# Altium footprint library DIP_LIB.PcbLib: 26 footprints (part 1 of 2)
Each footprint in its own frame and in the unit in brackets; x right, y up, seen from the top. Pads: shape width x height; smd on the part's side, far side on the other; paste and mask are expansions set on the pad; w line width, h text height; cw(c..) or ccw(c..) is an arc to the next point about the centre after c.
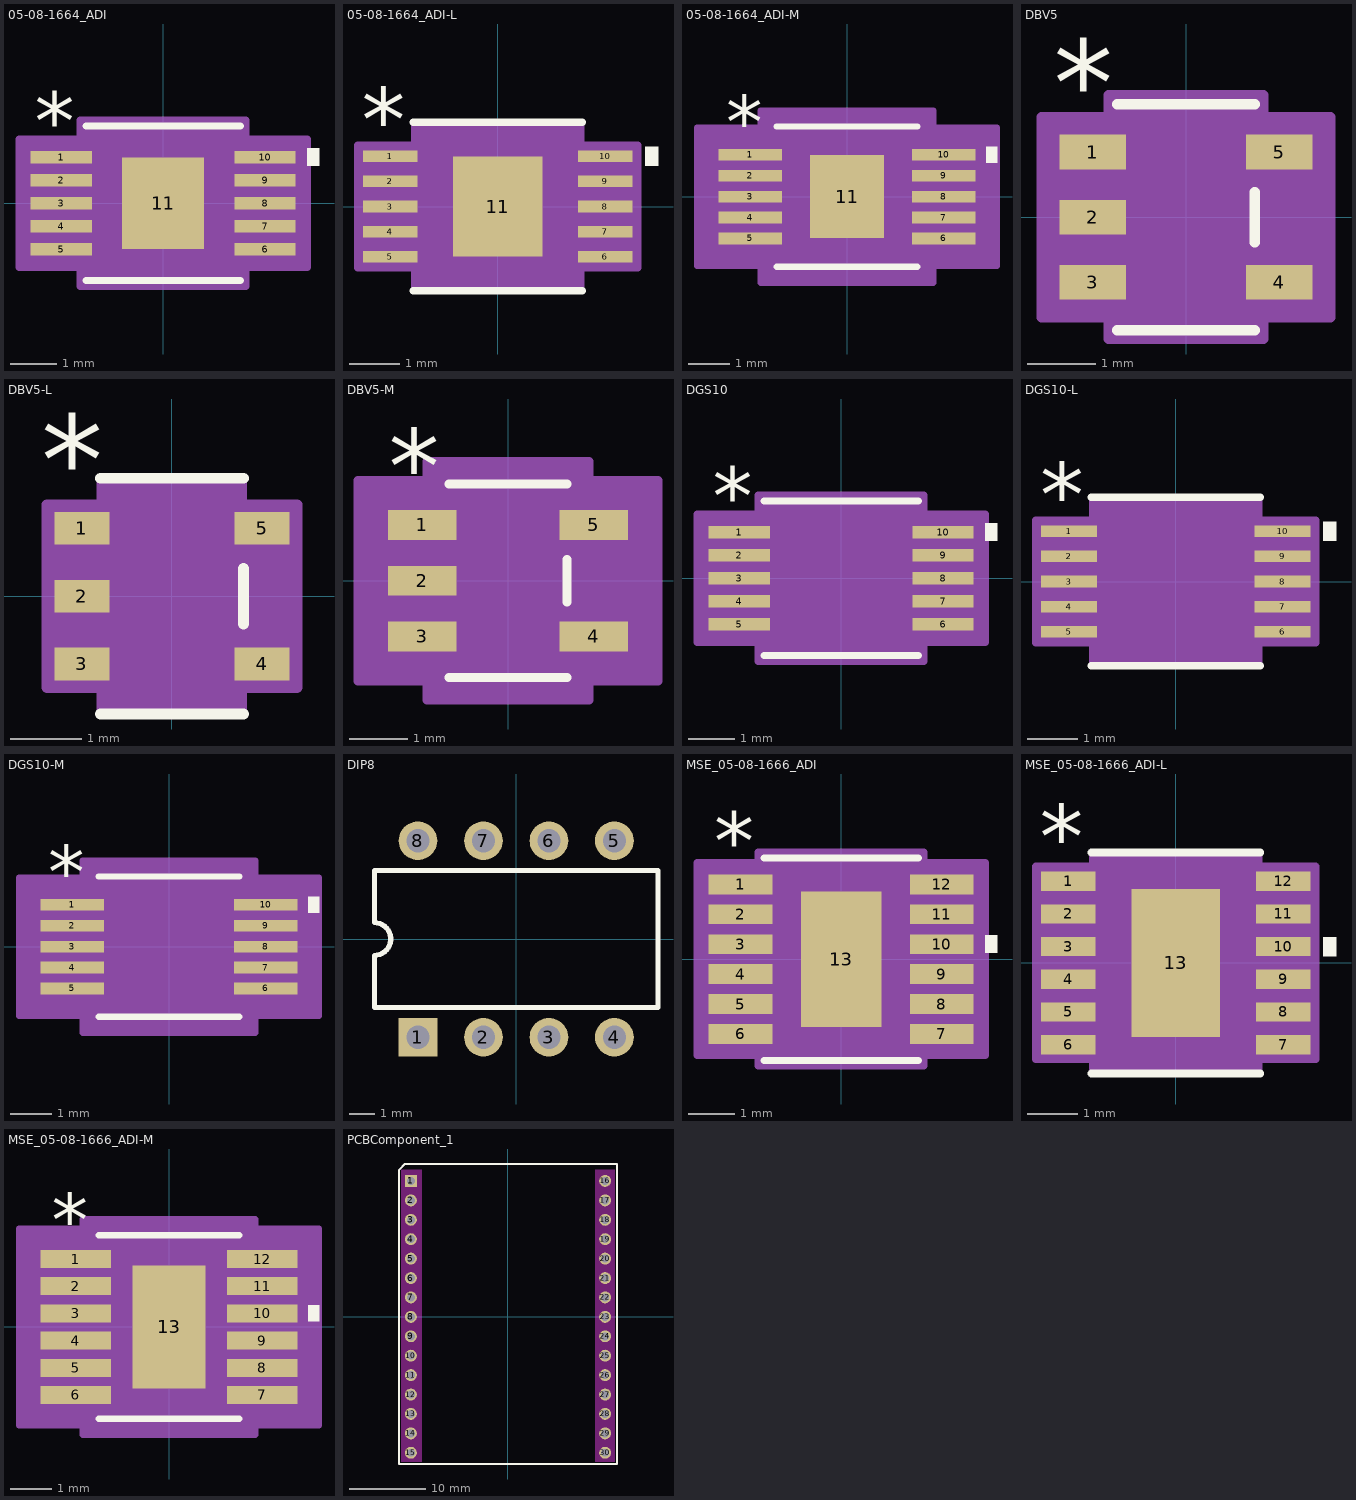
[diagram p0: the footprints below, top view; thin cyan lines are the x and y axes]

## 05-08-1664_ADI [mil]
pads (11):
  rect 52.28x11 smd paste+0 mask+0: 1(-87.14,39.37) 2(-87.14,19.68) 3(-87.14,0) 4(-87.14,-19.68) 5(-87.14,-39.37) 6(87.14,-39.37) 7(87.14,-19.68) 8(87.14,0) 9(87.14,19.68) 10(87.14,39.37)
  rect 70x78 smd paste+0 mask+0: 11(0,0)
Top Overlay:
  region: 123.28,46.87 133.28,46.87 133.28,31.87 123.28,31.87
  lines w6: -66,-66 66,-66 ; -66,66 66,66
  text ".Designator" at -137.5,-25 h50
  text "*" at -109.64,45.37 h50
Mechanical 13:
  lines w1: -12,61 ccw(c0,61) 12,61 ; -99.5,-44.87 -99.5,-33.87 -61,-33.87 -61,-44.87 -99.5,-44.87 ; -99.5,-25.18 -99.5,-14.19 -61,-14.19 -61,-25.18 -99.5,-25.18 ; -99.5,-5.5 -99.5,5.5 -61,5.5 -61,-5.5 -99.5,-5.5 ; -99.5,14.19 -99.5,25.18 -61,25.18 -61,14.19 -99.5,14.19 ; -99.5,33.87 -99.5,44.87 -61,44.87 -61,33.87 -99.5,33.87 ; -61,-61 61,-61 61,61 -61,61 -61,-61 ; 61,-44.87 61,-33.87 99.5,-33.87 99.5,-44.87 61,-44.87 ; 61,-25.18 61,-14.19 99.5,-14.19 99.5,-25.18 61,-25.18 ; 61,-5.5 61,5.5 99.5,5.5 99.5,-5.5 61,-5.5 ; 61,14.19 61,25.18 99.5,25.18 99.5,14.19 61,14.19 ; 61,33.87 61,44.87 99.5,44.87 99.5,33.87 61,33.87
  text "*" at -58.5,8 h50
  text ".Designator" at -137.5,-25 h50
Mechanical 15:
  region: -71,-54.87 -123.28,-54.87 -123.28,54.87 -71,54.87 -71,71 71,71 71,54.87 123.28,54.87 123.28,-54.87 71,-54.87 71,-71 -71,-71
  lines w6: -123.28,-54.87 -123.28,54.87 -71,54.87 -71,71 71,71 71,54.87 123.28,54.87 123.28,-54.87 71,-54.87 71,-71 -71,-71 -71,-54.87 -123.28,-54.87
3D body "05-08-1664_ADI.step": height 43.11, standoff 0, extent -99.49,-60.98 99.49,60.98

## 05-08-1664_ADI-L [mm]
pads (11):
  rect 1.086x0.229 smd paste+0 mask+0: 1(-2.134,1) 2(-2.134,0.5) 3(-2.134,0) 4(-2.134,-0.5) 5(-2.134,-1) 6(2.134,-1) 7(2.134,-0.5) 8(2.134,0) 9(2.134,0.5) 10(2.134,1)
  rect 1.778x1.981 smd paste+0 mask+0: 11(0,0)
Top Overlay:
  region: 2.931,1.191 3.185,1.191 3.185,0.81 2.931,0.81
  lines w0.152: -1.676,-1.676 1.676,-1.676 ; -1.676,1.676 1.676,1.676
  text ".Designator" at -3.492,-0.635 h1.27
  text "*" at -2.706,1.102 h1.27
Mechanical 13:
  lines w0.025: -0.305,1.549 ccw(c0,1.549) 0.305,1.549 ; -2.527,-1.14 -2.527,-0.86 -1.549,-0.86 -1.549,-1.14 -2.527,-1.14 ; -2.527,-0.64 -2.527,-0.36 -1.549,-0.36 -1.549,-0.64 -2.527,-0.64 ; -2.527,-0.14 -2.527,0.14 -1.549,0.14 -1.549,-0.14 -2.527,-0.14 ; -2.527,0.36 -2.527,0.64 -1.549,0.64 -1.549,0.36 -2.527,0.36 ; -2.527,0.86 -2.527,1.14 -1.549,1.14 -1.549,0.86 -2.527,0.86 ; -1.549,-1.549 1.549,-1.549 1.549,1.549 -1.549,1.549 -1.549,-1.549 ; 1.549,-1.14 1.549,-0.86 2.527,-0.86 2.527,-1.14 1.549,-1.14 ; 1.549,-0.64 1.549,-0.36 2.527,-0.36 2.527,-0.64 1.549,-0.64 ; 1.549,-0.14 1.549,0.14 2.527,0.14 2.527,-0.14 1.549,-0.14 ; 1.549,0.36 1.549,0.64 2.527,0.64 2.527,0.36 1.549,0.36 ; 1.549,0.86 1.549,1.14 2.527,1.14 2.527,0.86 1.549,0.86
  text "*" at -1.486,0.203 h1.27
  text ".Designator" at -3.492,-0.635 h1.27
Mechanical 15:
  region: -1.651,-1.216 -2.779,-1.216 -2.779,1.216 -1.651,1.216 -1.651,1.651 1.651,1.651 1.651,1.216 2.779,1.216 2.779,-1.216 1.651,-1.216 1.651,-1.651 -1.651,-1.651
  lines w0.152: -2.779,-1.216 -2.779,1.216 -1.651,1.216 -1.651,1.651 1.651,1.651 1.651,1.216 2.779,1.216 2.779,-1.216 1.651,-1.216 1.651,-1.651 -1.651,-1.651 -1.651,-1.216 -2.779,-1.216
3D body "05-08-1664_ADI.step": height 1.09, standoff 0, extent -2.527,-1.549 2.527,1.549

## 05-08-1664_ADI-M [mil]
pads (11):
  rect 60.15x11 smd paste+0 mask+0: 1(-91.08,39.37) 2(-91.08,19.68) 3(-91.08,0) 4(-91.08,-19.68) 5(-91.08,-39.37) 6(91.08,-39.37) 7(91.08,-19.68) 8(91.08,0) 9(91.08,19.68) 10(91.08,39.37)
  rect 70x78 smd paste+0 mask+0: 11(0,0)
Top Overlay:
  region: 131.15,46.87 141.15,46.87 141.15,31.87 131.15,31.87
  lines w6: -66,-66 66,-66 ; -66,66 66,66
  text "*" at -113.58,45.37 h50
  text ".Designator" at -137.5,-25 h50
Mechanical 13:
  lines w1: -12,61 ccw(c0,61) 12,61 ; -99.5,-44.87 -61,-44.87 -61,-33.87 -99.5,-33.87 -99.5,-44.87 ; -99.5,-25.18 -61,-25.18 -61,-14.19 -99.5,-14.19 -99.5,-25.18 ; -99.5,-5.5 -61,-5.5 -61,5.5 -99.5,5.5 -99.5,-5.5 ; -99.5,14.19 -61,14.19 -61,25.18 -99.5,25.18 -99.5,14.19 ; -99.5,33.87 -61,33.87 -61,44.87 -99.5,44.87 -99.5,33.87 ; -61,-61 -61,61 61,61 61,-61 -61,-61 ; 61,-44.87 99.5,-44.87 99.5,-33.87 61,-33.87 61,-44.87 ; 61,-25.18 99.5,-25.18 99.5,-14.19 61,-14.19 61,-25.18 ; 61,-5.5 99.5,-5.5 99.5,5.5 61,5.5 61,-5.5 ; 61,14.19 99.5,14.19 99.5,25.18 61,25.18 61,14.19 ; 61,33.87 99.5,33.87 99.5,44.87 61,44.87 61,33.87
  text ".Designator" at -137.5,-25 h50
  text "*" at -58.5,8 h50
Mechanical 15:
  region: -81,-64.87 -141.15,-64.87 -141.15,64.87 -81,64.87 -81,81 81,81 81,64.87 141.15,64.87 141.15,-64.87 81,-64.87 81,-81 -81,-81
  lines w6: -141.15,-64.87 -81,-64.87 -81,-81 81,-81 81,-64.87 141.15,-64.87 141.15,64.87 81,64.87 81,81 -81,81 -81,64.87 -141.15,64.87 -141.15,-64.87
3D body "05-08-1664_ADI.step": height 43.11, standoff 0, extent -99.49,-60.98 99.49,60.98

## DBV5 [mil]
pads (5):
  rect 38.28x20 smd paste+0 mask+0: 1(-53.64,37.4) 2(-53.64,0) 3(-53.64,-37.4) 4(53.64,-37.4) 5(53.64,37.4)
Top Overlay:
  lines w6: -39.5,-65 39.5,-65 ; -39.5,65 39.5,65 ; 39.5,-14.3 39.5,14.3
  text "*" at -76.14,52.4 h50
  text ".Designator" at -137.5,-25 h50
Mechanical 13:
  lines w1: -12,60 ccw(c0,60) 12,60 ; -59,-47.4 -59,-27.4 -34.5,-27.4 -34.5,-47.4 -59,-47.4 ; -59,-10 -59,10 -34.5,10 -34.5,-10 -59,-10 ; -59,27.4 -59,47.4 -34.5,47.4 -34.5,27.4 -59,27.4 ; -34.5,-60 34.5,-60 34.5,60 -34.5,60 -34.5,-60 ; 34.5,-47.4 34.5,-27.4 59,-27.4 59,-47.4 34.5,-47.4 ; 34.5,27.4 34.5,47.4 59,47.4 59,27.4 34.5,27.4
  text ".Designator" at -137.5,-25 h50
  text "*" at -37,14.4 h50
Mechanical 15:
  region: 44.5,-70 -44.5,-70 -44.5,-57.4 -82.78,-57.4 -82.78,57.4 -44.5,57.4 -44.5,70 44.5,70 44.5,57.4 82.78,57.4 82.78,-57.4 44.5,-57.4
  lines w6: -82.78,-57.4 -44.5,-57.4 -44.5,-70 44.5,-70 44.5,-57.4 82.78,-57.4 82.78,57.4 44.5,57.4 44.5,70 -44.5,70 -44.5,57.4 -82.78,57.4 -82.78,-57.4
3D body "DBV5.step": height 57.09, standoff 0, extent -59.02,-60 59.02,60

## DBV5-L [mm]
pads (5):
  rect 0.772x0.458 smd paste+0 mask+0: 1(-1.262,0.95) 2(-1.262,0) 3(-1.262,-0.95) 4(1.262,-0.95) 5(1.262,0.95)
Top Overlay:
  lines w0.152: -1.003,-1.651 1.003,-1.651 ; -1.003,1.651 1.003,1.651 ; 1.003,-0.388 1.003,0.388
  text "*" at -1.834,1.281 h1.27
  text ".Designator" at -3.492,-0.635 h1.27
Mechanical 13:
  lines w0.025: -0.305,1.524 ccw(c0,1.524) 0.305,1.524 ; -1.499,-1.204 -1.499,-0.696 -0.876,-0.696 -0.876,-1.204 -1.499,-1.204 ; -1.499,-0.254 -1.499,0.254 -0.876,0.254 -0.876,-0.254 -1.499,-0.254 ; -1.499,0.696 -1.499,1.204 -0.876,1.204 -0.876,0.696 -1.499,0.696 ; -0.876,-1.524 0.876,-1.524 0.876,1.524 -0.876,1.524 -0.876,-1.524 ; 0.876,-1.204 0.876,-0.696 1.499,-0.696 1.499,-1.204 0.876,-1.204 ; 0.876,0.696 0.876,1.204 1.499,1.204 1.499,0.696 0.876,0.696
  text ".Designator" at -3.492,-0.635 h1.27
  text "*" at -0.94,0.316 h1.27
Mechanical 15:
  region: 0.978,-1.626 -0.978,-1.626 -0.978,-1.281 -1.75,-1.281 -1.75,1.281 -0.978,1.281 -0.978,1.626 0.978,1.626 0.978,1.281 1.75,1.281 1.75,-1.281 0.978,-1.281
  lines w0.152: -1.75,-1.281 -0.978,-1.281 -0.978,-1.626 0.978,-1.626 0.978,-1.281 1.75,-1.281 1.75,1.281 0.978,1.281 0.978,1.626 -0.978,1.626 -0.978,1.281 -1.75,1.281 -1.75,-1.281
3D body "DBV5.step": height 1.45, standoff 0, extent -1.499,-1.524 1.499,1.524

## DBV5-M [mil]
pads (5):
  rect 46.15x20 smd paste+0 mask+0: 1(-57.58,37.4) 2(-57.58,0) 3(-57.58,-37.4) 4(57.58,-37.4) 5(57.58,37.4)
Top Overlay:
  lines w6: -39.5,-65 39.5,-65 ; -39.5,65 39.5,65 ; 39.5,-14.3 39.5,14.3
  text "*" at -80.08,52.4 h50
  text ".Designator" at -137.5,-25 h50
Mechanical 13:
  lines w1: -12,60 ccw(c0,60) 12,60 ; -59,-47.4 -59,-27.4 -34.5,-27.4 -34.5,-47.4 -59,-47.4 ; -59,-10 -59,10 -34.5,10 -34.5,-10 -59,-10 ; -59,27.4 -59,47.4 -34.5,47.4 -34.5,27.4 -59,27.4 ; -34.5,-60 34.5,-60 34.5,60 -34.5,60 -34.5,-60 ; 34.5,-47.4 34.5,-27.4 59,-27.4 59,-47.4 34.5,-47.4 ; 34.5,27.4 34.5,47.4 59,47.4 59,27.4 34.5,27.4
  text ".Designator" at -137.5,-25 h50
  text "*" at -37,14.4 h50
Mechanical 15:
  region: 54.5,-80 -54.5,-80 -54.5,-67.4 -100.65,-67.4 -100.65,67.4 -54.5,67.4 -54.5,80 54.5,80 54.5,67.4 100.65,67.4 100.65,-67.4 54.5,-67.4
  lines w6: -100.65,-67.4 -54.5,-67.4 -54.5,-80 54.5,-80 54.5,-67.4 100.65,-67.4 100.65,67.4 54.5,67.4 54.5,80 -54.5,80 -54.5,67.4 -100.65,67.4 -100.65,-67.4
3D body "DBV5.step": height 57.09, standoff 0, extent -59.02,-60 59.02,60

## DGS10 [mil]
pads (10):
  rect 52.28x11 smd paste+0 mask+0: 1(-87.14,39.37) 2(-87.14,19.68) 3(-87.14,0) 4(-87.14,-19.68) 5(-87.14,-39.37) 6(87.14,-39.37) 7(87.14,-19.68) 8(87.14,0) 9(87.14,19.68) 10(87.14,39.37)
Top Overlay:
  region: 123.28,46.87 133.28,46.87 133.28,31.87 123.28,31.87
  lines w6: -66,-66 66,-66 ; -66,66 66,66
  text "*" at -109.64,45.37 h50
  text ".Designator" at -137.5,-25 h50
Mechanical 13:
  lines w1: -12,61 ccw(c0,61) 12,61 ; -99.5,-44.87 -61,-44.87 -61,-33.87 -99.5,-33.87 -99.5,-44.87 ; -99.5,-25.18 -61,-25.18 -61,-14.19 -99.5,-14.19 -99.5,-25.18 ; -99.5,-5.5 -61,-5.5 -61,5.5 -99.5,5.5 -99.5,-5.5 ; -99.5,14.19 -61,14.19 -61,25.18 -99.5,25.18 -99.5,14.19 ; -99.5,33.87 -61,33.87 -61,44.87 -99.5,44.87 -99.5,33.87 ; -61,-61 -61,61 61,61 61,-61 -61,-61 ; 61,-44.87 99.5,-44.87 99.5,-33.87 61,-33.87 61,-44.87 ; 61,-25.18 99.5,-25.18 99.5,-14.19 61,-14.19 61,-25.18 ; 61,-5.5 99.5,-5.5 99.5,5.5 61,5.5 61,-5.5 ; 61,14.19 99.5,14.19 99.5,25.18 61,25.18 61,14.19 ; 61,33.87 99.5,33.87 99.5,44.87 61,44.87 61,33.87
  text ".Designator" at -137.5,-25 h50
  text "*" at -58.5,8 h50
Mechanical 15:
  region: -71,-54.87 -123.28,-54.87 -123.28,54.87 -71,54.87 -71,71 71,71 71,54.87 123.28,54.87 123.28,-54.87 71,-54.87 71,-71 -71,-71
  lines w6: -123.28,-54.87 -71,-54.87 -71,-71 71,-71 71,-54.87 123.28,-54.87 123.28,54.87 71,54.87 71,71 -71,71 -71,54.87 -123.28,54.87 -123.28,-54.87
3D body "DGS10.step": height 43.11, standoff 0, extent -99.49,-60.98 99.49,60.98

## DGS10-L [mm]
pads (10):
  rect 1.111x0.229 smd paste+0 mask+0: 1(-2.122,1) 2(-2.122,0.5) 3(-2.122,0) 4(-2.122,-0.5) 5(-2.122,-1) 6(2.122,-1) 7(2.122,-0.5) 8(2.122,0) 9(2.122,0.5) 10(2.122,1)
Top Overlay:
  region: 2.931,1.191 3.185,1.191 3.185,0.81 2.931,0.81
  lines w0.152: -1.676,-1.676 1.676,-1.676 ; -1.676,1.676 1.676,1.676
  text "*" at -2.693,1.102 h1.27
  text ".Designator" at -3.492,-0.635 h1.27
Mechanical 13:
  lines w0.025: -0.305,1.549 ccw(c0,1.549) 0.305,1.549 ; -2.527,-1.14 -1.549,-1.14 -1.549,-0.86 -2.527,-0.86 -2.527,-1.14 ; -2.527,-0.64 -1.549,-0.64 -1.549,-0.36 -2.527,-0.36 -2.527,-0.64 ; -2.527,-0.14 -1.549,-0.14 -1.549,0.14 -2.527,0.14 -2.527,-0.14 ; -2.527,0.36 -1.549,0.36 -1.549,0.64 -2.527,0.64 -2.527,0.36 ; -2.527,0.86 -1.549,0.86 -1.549,1.14 -2.527,1.14 -2.527,0.86 ; -1.549,-1.549 -1.549,1.549 1.549,1.549 1.549,-1.549 -1.549,-1.549 ; 1.549,-1.14 2.527,-1.14 2.527,-0.86 1.549,-0.86 1.549,-1.14 ; 1.549,-0.64 2.527,-0.64 2.527,-0.36 1.549,-0.36 1.549,-0.64 ; 1.549,-0.14 2.527,-0.14 2.527,0.14 1.549,0.14 1.549,-0.14 ; 1.549,0.36 2.527,0.36 2.527,0.64 1.549,0.64 1.549,0.36 ; 1.549,0.86 2.527,0.86 2.527,1.14 1.549,1.14 1.549,0.86
  text ".Designator" at -3.492,-0.635 h1.27
  text "*" at -1.486,0.203 h1.27
Mechanical 15:
  region: -1.651,-1.216 -2.779,-1.216 -2.779,1.216 -1.651,1.216 -1.651,1.651 1.651,1.651 1.651,1.216 2.779,1.216 2.779,-1.216 1.651,-1.216 1.651,-1.651 -1.651,-1.651
  lines w0.152: -2.779,-1.216 -1.651,-1.216 -1.651,-1.651 1.651,-1.651 1.651,-1.216 2.779,-1.216 2.779,1.216 1.651,1.216 1.651,1.651 -1.651,1.651 -1.651,1.216 -2.779,1.216 -2.779,-1.216
3D body "DGS10.step": height 1.09, standoff 0, extent -2.527,-1.549 2.527,1.549

## DGS10-M [mil]
pads (10):
  rect 60.15x11 smd paste+0 mask+0: 1(-91.08,39.37) 2(-91.08,19.68) 3(-91.08,0) 4(-91.08,-19.68) 5(-91.08,-39.37) 6(91.08,-39.37) 7(91.08,-19.68) 8(91.08,0) 9(91.08,19.68) 10(91.08,39.37)
Top Overlay:
  region: 131.15,46.87 141.15,46.87 141.15,31.87 131.15,31.87
  lines w6: -66,-66 66,-66 ; -66,66 66,66
  text ".Designator" at -137.5,-25 h50
  text "*" at -113.58,45.37 h50
Mechanical 13:
  lines w1: -12,61 ccw(c0,61) 12,61 ; -99.5,-44.87 -99.5,-33.87 -61,-33.87 -61,-44.87 -99.5,-44.87 ; -99.5,-25.18 -99.5,-14.19 -61,-14.19 -61,-25.18 -99.5,-25.18 ; -99.5,-5.5 -99.5,5.5 -61,5.5 -61,-5.5 -99.5,-5.5 ; -99.5,14.19 -99.5,25.18 -61,25.18 -61,14.19 -99.5,14.19 ; -99.5,33.87 -99.5,44.87 -61,44.87 -61,33.87 -99.5,33.87 ; -61,-61 61,-61 61,61 -61,61 -61,-61 ; 61,-44.87 61,-33.87 99.5,-33.87 99.5,-44.87 61,-44.87 ; 61,-25.18 61,-14.19 99.5,-14.19 99.5,-25.18 61,-25.18 ; 61,-5.5 61,5.5 99.5,5.5 99.5,-5.5 61,-5.5 ; 61,14.19 61,25.18 99.5,25.18 99.5,14.19 61,14.19 ; 61,33.87 61,44.87 99.5,44.87 99.5,33.87 61,33.87
  text "*" at -58.5,8 h50
  text ".Designator" at -137.5,-25 h50
Mechanical 15:
  region: -81,-64.87 -141.15,-64.87 -141.15,64.87 -81,64.87 -81,81 81,81 81,64.87 141.15,64.87 141.15,-64.87 81,-64.87 81,-81 -81,-81
  lines w6: -141.15,-64.87 -141.15,64.87 -81,64.87 -81,81 81,81 81,64.87 141.15,64.87 141.15,-64.87 81,-64.87 81,-81 -81,-81 -81,-64.87 -141.15,-64.87
3D body "DGS10.step": height 43.11, standoff 0, extent -99.49,-60.98 99.49,60.98

## DIP8 [mm] "DIP; 8 Leads; Row Spacing 7.62 mm; Pitch 2.54 mm"
height 5.08
pads (8):
  rect 1.5x1.5 hole 0.9: 1(-3.81,-3.81)
  round 1.5 hole 0.9: 2(-1.27,-3.81) 3(1.27,-3.81) 4(3.81,-3.81) 5(3.81,3.81) 6(1.27,3.81) 7(-1.27,3.81) 8(-3.81,3.81)
Top Overlay:
  lines w0.2: -5.5,-2.65 -5.5,-0.635 ccw(c-5.5,0) -5.5,0.635 -5.5,2.65 5.5,2.65 5.5,-2.65 -5.5,-2.65

## MSE_05-08-1666_ADI [mil]
pads (13):
  rect 54.56x16.97 smd paste+0 mask+0: 1(-86,63.98) 2(-86,38.39) 3(-86,12.8) 4(-86,-12.8) 5(-86,-38.39) 6(-86,-63.98) 7(86,-63.98) 8(86,-38.39) 9(86,-12.8) 10(86,12.8) 11(86,38.39) 12(86,63.98)
  rect 69x116 smd paste-57.5 mask+0: 13(0,0)
Top Overlay:
  region: 123.28,20.3 133.28,20.3 133.28,5.3 123.28,5.3
  lines w6: -66,-86.5 66,-86.5 ; -66,86.5 66,86.5
  text ".Designator" at -137.5,-25 h50
  text "*" at -108.5,75.94 h50
Top Paste:
  region: 30.56,54.06 -30.56,54.06 -30.56,3.94 30.56,3.94
  region: 30.56,-3.94 -30.56,-3.94 -30.56,-54.06 30.56,-54.06
Mechanical 13:
  lines w1: -12,81.5 ccw(c0,81.5) 12,81.5 ; -99.5,-71.48 -99.5,-56.48 -61,-56.48 -61,-71.48 -99.5,-71.48 ; -99.5,-45.89 -99.5,-30.89 -61,-30.89 -61,-45.89 -99.5,-45.89 ; -99.5,-20.3 -99.5,-5.3 -61,-5.3 -61,-20.3 -99.5,-20.3 ; -99.5,5.3 -99.5,20.3 -61,20.3 -61,5.3 -99.5,5.3 ; -99.5,30.89 -99.5,45.89 -61,45.89 -61,30.89 -99.5,30.89 ; -99.5,56.48 -99.5,71.48 -61,71.48 -61,56.48 -99.5,56.48 ; -61,-81.5 61,-81.5 61,81.5 -61,81.5 -61,-81.5 ; 61,-71.48 61,-56.48 99.5,-56.48 99.5,-71.48 61,-71.48 ; 61,-45.89 61,-30.89 99.5,-30.89 99.5,-45.89 61,-45.89 ; 61,-20.3 61,-5.3 99.5,-5.3 99.5,-20.3 61,-20.3 ; 61,5.3 61,20.3 99.5,20.3 99.5,5.3 61,5.3 ; 61,30.89 61,45.89 99.5,45.89 99.5,30.89 61,30.89 ; 61,56.48 61,71.48 99.5,71.48 99.5,56.48 61,56.48
  text "*" at -58.5,28.5 h50
  text ".Designator" at -137.5,-25 h50
Mechanical 15:
  region: -71,-82.46 -123.28,-82.46 -123.28,82.46 -71,82.46 -71,91.5 71,91.5 71,82.46 123.28,82.46 123.28,-82.46 71,-82.46 71,-91.5 -71,-91.5
  lines w6: -123.28,-82.46 -123.28,82.46 -71,82.46 -71,91.5 71,91.5 71,82.46 123.28,82.46 123.28,-82.46 71,-82.46 71,-91.5 -71,-91.5 -71,-82.46 -123.28,-82.46
3D body "MSE_05-08-1666_ADI.step": height 43.11, standoff 0, extent -99.49,-81.5 99.49,81.5

## MSE_05-08-1666_ADI-L [mil]
pads (13):
  rect 42.75x15 smd paste+0 mask+0: 1(-84.03,63.98) 2(-84.03,38.39) 3(-84.03,12.8) 4(-84.03,-12.8) 5(-84.03,-38.39) 6(-84.03,-63.98) 7(84.03,-63.98) 8(84.03,-38.39) 9(84.03,-12.8) 10(84.03,12.8) 11(84.03,38.39) 12(84.03,63.98)
  rect 69x116 smd paste-57.5 mask+0: 13(0,0)
Top Overlay:
  region: 115.41,20.3 125.41,20.3 125.41,5.3 115.41,5.3
  lines w6: -66,-86.5 66,-86.5 ; -66,86.5 66,86.5
  text ".Designator" at -137.5,-25 h50
  text "*" at -106.53,73.98 h50
Top Paste:
  region: 30.56,54.06 -30.56,54.06 -30.56,3.94 30.56,3.94
  region: 30.56,-3.94 -30.56,-3.94 -30.56,-54.06 30.56,-54.06
Mechanical 13:
  lines w1: -12,81.5 ccw(c0,81.5) 12,81.5 ; -99.5,-71.48 -99.5,-56.48 -61,-56.48 -61,-71.48 -99.5,-71.48 ; -99.5,-45.89 -99.5,-30.89 -61,-30.89 -61,-45.89 -99.5,-45.89 ; -99.5,-20.3 -99.5,-5.3 -61,-5.3 -61,-20.3 -99.5,-20.3 ; -99.5,5.3 -99.5,20.3 -61,20.3 -61,5.3 -99.5,5.3 ; -99.5,30.89 -99.5,45.89 -61,45.89 -61,30.89 -99.5,30.89 ; -99.5,56.48 -99.5,71.48 -61,71.48 -61,56.48 -99.5,56.48 ; -61,-81.5 61,-81.5 61,81.5 -61,81.5 -61,-81.5 ; 61,-71.48 61,-56.48 99.5,-56.48 99.5,-71.48 61,-71.48 ; 61,-45.89 61,-30.89 99.5,-30.89 99.5,-45.89 61,-45.89 ; 61,-20.3 61,-5.3 99.5,-5.3 99.5,-20.3 61,-20.3 ; 61,5.3 61,20.3 99.5,20.3 99.5,5.3 61,5.3 ; 61,30.89 61,45.89 99.5,45.89 99.5,30.89 61,30.89 ; 61,56.48 61,71.48 99.5,71.48 99.5,56.48 61,56.48
  text "*" at -58.5,28.5 h50
  text ".Designator" at -137.5,-25 h50
Mechanical 15:
  region: -65,-75.48 -109.41,-75.48 -109.41,75.48 -65,75.48 -65,85.5 65,85.5 65,75.48 109.41,75.48 109.41,-75.48 65,-75.48 65,-85.5 -65,-85.5
  lines w6: -109.41,-75.48 -109.41,75.48 -65,75.48 -65,85.5 65,85.5 65,75.48 109.41,75.48 109.41,-75.48 65,-75.48 65,-85.5 -65,-85.5 -65,-75.48 -109.41,-75.48
3D body "MSE_05-08-1666_ADI.step": height 43.11, standoff 0, extent -99.49,-81.5 99.49,81.5

## MSE_05-08-1666_ADI-M [mm]
pads (13):
  rect 1.686x0.431 smd paste+0 mask+0: 1(-2.234,1.625) 2(-2.234,0.975) 3(-2.234,0.325) 4(-2.234,-0.325) 5(-2.234,-0.975) 6(-2.234,-1.625) 7(2.234,-1.625) 8(2.234,-0.975) 9(2.234,-0.325) 10(2.234,0.325) 11(2.234,0.975) 12(2.234,1.625)
  rect 1.753x2.946 smd paste-1.46 mask+0: 13(0,0)
Top Overlay:
  region: 3.331,0.515 3.585,0.515 3.585,0.134 3.331,0.134
  lines w0.152: -1.676,-2.197 1.676,-2.197 ; -1.676,2.197 1.676,2.197
  text "*" at -2.806,1.929 h1.27
  text ".Designator" at -3.492,-0.635 h1.27
Top Paste:
  region: 0.776,-0.1 -0.776,-0.1 -0.776,-1.373 0.776,-1.373
  region: 0.776,1.373 -0.776,1.373 -0.776,0.1 0.776,0.1
Mechanical 13:
  lines w0.025: -0.305,2.07 ccw(c0,2.07) 0.305,2.07 ; -2.527,-1.815 -1.549,-1.815 -1.549,-1.434 -2.527,-1.434 -2.527,-1.815 ; -2.527,-1.165 -1.549,-1.165 -1.549,-0.784 -2.527,-0.784 -2.527,-1.165 ; -2.527,-0.515 -1.549,-0.515 -1.549,-0.134 -2.527,-0.134 -2.527,-0.515 ; -2.527,0.135 -1.549,0.135 -1.549,0.516 -2.527,0.516 -2.527,0.135 ; -2.527,0.784 -1.549,0.784 -1.549,1.165 -2.527,1.165 -2.527,0.784 ; -2.527,1.435 -1.549,1.435 -1.549,1.816 -2.527,1.816 -2.527,1.435 ; -1.549,-2.07 -1.549,2.07 1.549,2.07 1.549,-2.07 -1.549,-2.07 ; 1.549,-1.816 2.527,-1.816 2.527,-1.435 1.549,-1.435 1.549,-1.816 ; 1.549,-1.165 2.527,-1.165 2.527,-0.784 1.549,-0.784 1.549,-1.165 ; 1.549,-0.516 2.527,-0.516 2.527,-0.135 1.549,-0.135 1.549,-0.516 ; 1.549,0.134 2.527,0.134 2.527,0.515 1.549,0.515 1.549,0.134 ; 1.549,0.784 2.527,0.784 2.527,1.165 1.549,1.165 1.549,0.784 ; 1.549,1.434 2.527,1.434 2.527,1.815 1.549,1.815 1.549,1.434
  text ".Designator" at -3.492,-0.635 h1.27
  text "*" at -1.486,0.724 h1.27
Mechanical 15:
  region: -2.057,-2.348 -3.585,-2.348 -3.585,2.348 -2.057,2.348 -2.057,2.578 2.057,2.578 2.057,2.348 3.585,2.348 3.585,-2.348 2.057,-2.348 2.057,-2.578 -2.057,-2.578
  lines w0.152: -3.585,-2.348 -2.057,-2.348 -2.057,-2.578 2.057,-2.578 2.057,-2.348 3.585,-2.348 3.585,2.348 2.057,2.348 2.057,2.578 -2.057,2.578 -2.057,2.348 -3.585,2.348 -3.585,-2.348
3D body "MSE_05-08-1666_ADI.step": height 1.09, standoff 0, extent -2.527,-2.07 2.527,2.07

## PCBComponent_1 [mm]
pads (30):
  rect 1.56x1.56 / inner round 1.56 / far side rect 1.56x1.56 hole 1.04: 1(-12.7,17.78)
  round 1.56 hole 1.04: 2(-12.7,15.24) 3(-12.7,12.7) 4(-12.7,10.16) 5(-12.7,7.62) 6(-12.7,5.08) 7(-12.7,2.54) 8(-12.7,0) 9(-12.7,-2.54) 10(-12.7,-5.08) 11(-12.7,-7.62) 12(-12.7,-10.16) 13(-12.7,-12.7) 14(-12.7,-15.24) 15(-12.7,-17.78) 16(12.7,17.78) 17(12.7,15.24) 18(12.7,12.7) 19(12.7,10.16) 20(12.7,7.62) 21(12.7,5.08) 22(12.7,2.54) 23(12.7,0) 24(12.7,-2.54) 25(12.7,-5.08) 26(12.7,-7.62) 27(12.7,-10.16) 28(12.7,-12.7) 29(12.7,-15.24) 30(12.7,-17.78)
Top Overlay:
  lines w0.254: -14.25,-19.25 -14.25,19.25 -13.5,20 14.25,20 14.25,-19.25 -14.25,-19.25
Keep-Out Layer:
  rectangle: 11.4,-19 14,19.25
  rectangle: -14,-19 -11.25,19.25

## PCBComponent_1 - duplicate [mil]

## PCBComponent_1 - duplicate1 [mil]